# Altium integrated library SKY13575-639LF.IntLib: 1 symbol
Pins are listed as number, name and electrical type; pins without a type are passive.

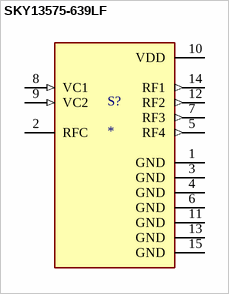
[diagram p0: symbol SKY13575-639LF]

## SKY13575-639LF
designator S?
RF Switch IC 802.11a/b/g/n/ac SP4T 6 GHz 50Ohm 14-QFN (1.6x1.6); MF: Skyworks Solutions; MP: SKY13575-639LF; SnapEDA_Link: https://www.snapeda.com/parts/SKY13575-639LF/Skyworks+Solution%252C+Inc./view-part/?ref=snap; Package: QFN-14 Skyworks Solutions; Value: *; Check_prices: https://www.snapeda.com/parts/SKY13575-639LF/Skyworks+Solution%252C+Inc./view-part/?ref=eda
footprint SW_SKY13575-639LF
pins: 1 GND (power), 2 RFC, 3 GND (power), 4 GND (power), 5 RF4 (out), 6 GND (power), 7 RF3 (out), 8 VC1 (in), 9 VC2 (in), 10 VDD (power), 11 GND (power), 12 RF2 (out), 13 GND (power), 14 RF1 (out), 15 GND (power)